# Altium footprint library PluggableConnectors.PcbLib: 7 footprints
Each footprint in its own frame and in the unit in brackets; x right, y up, seen from the top. Pads: shape width x height; smd on the part's side, far side on the other; paste and mask are expansions set on the pad; w line width, h text height; cw(c..) or ccw(c..) is an arc to the next point about the centre after c.
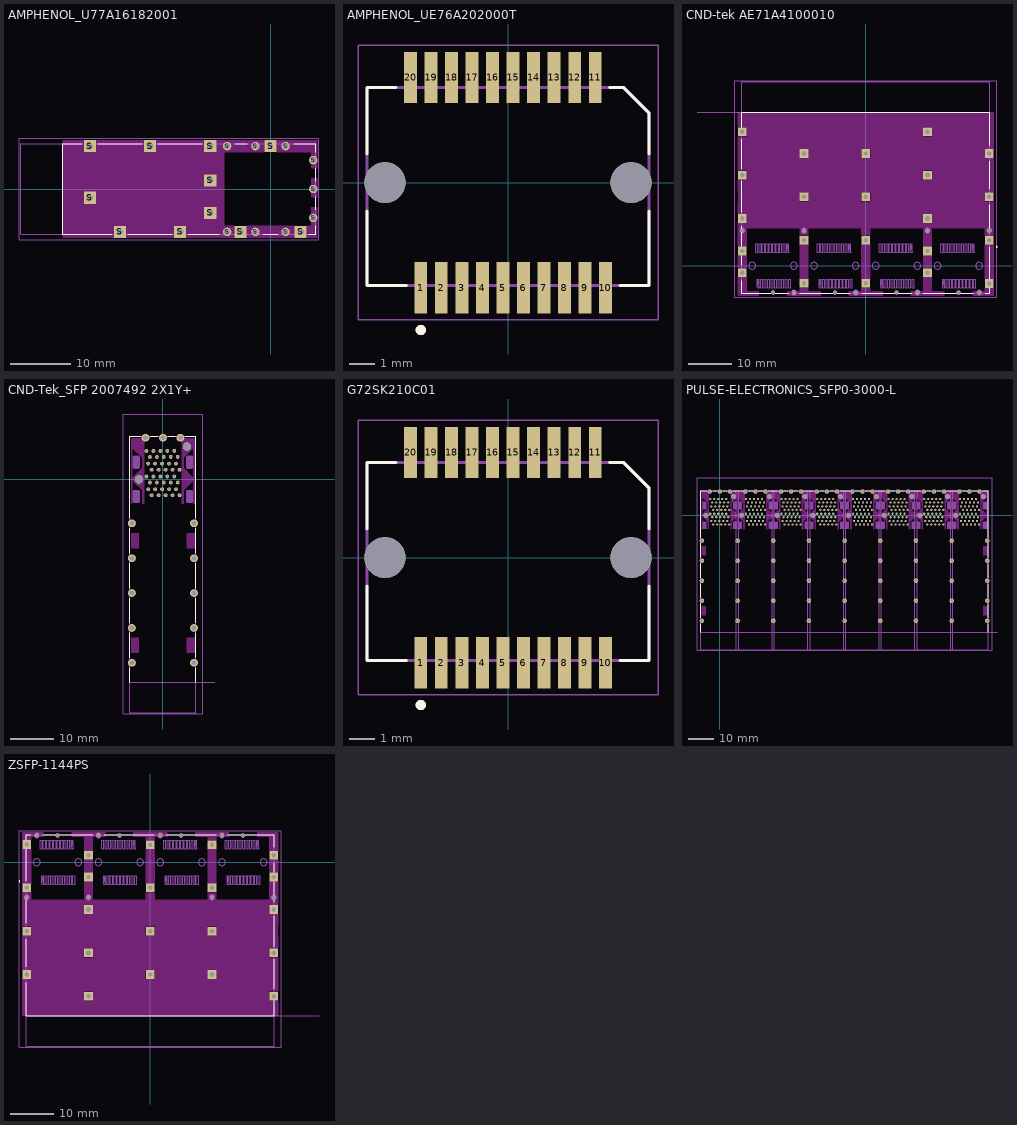
[diagram p0: the footprints below, top view; thin cyan lines are the x and y axes]

## AMPHENOL_U77A16182001 [mm]
height 10.85
pads (20):
  rect 2x2 / inner round 2 / far side rect 2x2 hole 1.1: S(-30,-1.455) S(-30,7.125) S(-25,-7.125) S(-20,7.125) S(-15,-7.125) S(-10,-3.955) S(-10,1.445) S(-10,7.125) S(-5,-7.125) S(5,-7.125)
  round 1.4 hole 1: S(-7.2,-7.125) S(-7.2,7.125) S(-2.5,-7.125) S(-2.5,7.125) S(2.5,-7.125) S(2.5,7.125) S(7.1,-4.8) S(7.1,0) S(7.1,4.8)
  rect 2x2 / inner round 2 / far side rect 2x2 hole 0.9: S(0,7.125)
Top Layer keep-out:
  region: 7.8,-1.355 6.8,-1.355 6.8,1.745 7.8,1.745
  region: 7.8,3.445 6.8,3.445 6.8,6.125 1,6.125 1,8.125 7.8,8.125
  region: 7.8,-6.125 7.8,-8.125 6,-8.125 6,-6.125 6.8,-6.125 6.8,-3.055 7.8,-3.055
  region: 4,-8.125 -4,-8.125 -4,-6.125 4,-6.125
  region: -1,6.125 -7.7,6.125 -7.7,-6.125 -6,-6.125 -6,-8.125 -11,-8.125 -11,-4.955 -9,-4.955 -9,-2.955 -11,-2.955 -11,0.445 -9,0.445 -9,2.445 -11,2.445 -11,6.125 -9,6.125 -9,8.125 -1,8.125
  region: -31,6.125 -29,6.125 -29,-0.455 -31,-0.455 -31,-2.455 -29,-2.455 -29,-8.125 -34.5,-8.125 -34.5,8.125 -31,8.125
  region: -11,-8.125 -14,-8.125 -14,-6.125 -16,-6.125 -16,-8.125 -24,-8.125 -24,-6.125 -26,-6.125 -26,-8.125 -29,-8.125 -29,8.125 -21,8.125 -21,6.125 -19,6.125 -19,8.125 -11,8.125
Top Overlay:
  lines w0.127: -31.32,7.5 -34.5,7.5 -34.5,-7.5 -26.32,-7.5 ; -28.68,7.5 -21.32,7.5 ; -23.68,-7.5 -16.32,-7.5 ; -18.68,7.5 -11.32,7.5 ; -13.68,-7.5 -8.5,-7.5 ; -5.88,7.5 -3.82,7.5 ; -1.18,-7.5 1.18,-7.5 ; 3.82,7.5 7.48,7.5 7.48,6.12 ; 6.32,-7.5 7.48,-7.5 7.48,-6.12 ; 7.48,-3.48 7.48,-1.32 ; 7.48,1.32 7.48,3.48
Keep-Out Layer:
  region: -11,-8.125 -14,-8.125 -14,-6.125 -16,-6.125 -16,-8.125 -24,-8.125 -24,-6.125 -26,-6.125 -26,-8.125 -29,-8.125 -29,8.125 -21,8.125 -21,6.125 -19,6.125 -19,8.125 -11,8.125
Mechanical 13:
  lines w0.127: -34.5,-7.5 7.48,-7.5 7.48,7.5 -34.5,7.5 ; -34.5,-7.5 -41.5,-7.5 -41.5,7.5 -34.5,7.5 ; -34.5,-7.5 -34.5,7.5
Mechanical 15:
  lines w0.05: -41.75,-8.4 8.05,-8.4 8.05,8.4 -41.75,8.4 -41.75,-8.4
3D body "step_temp.STEP": height 10.77, standoff -2.03, extent -41.49,-8.15 7.485,8.15

## AMPHENOL_UE76A202000T [mm]
height 5.25
pads (22):
  rect 0.5x2 smd: 1(-3.4,-4.1) 2(-2.6,-4.1) 3(-1.8,-4.1) 4(-1,-4.1) 5(-0.2,-4.1) 6(0.6,-4.1) 7(1.4,-4.1) 8(2.2,-4.1) 9(3,-4.1) 10(3.8,-4.1) 11(3.4,4.1) 12(2.6,4.1) 13(1.8,4.1) 14(1,4.1) 15(0.2,4.1) 16(-0.6,4.1) 17(-1.4,4.1) 18(-2.2,4.1) 19(-3,4.1) 20(-3.8,4.1)
  round 1.6 hole 1.6 unplated: ""(-4.8,0) ""(4.8,0)
Top Overlay:
  circle w0.2: c-3.4,-5.75 r0.1
  lines w0.127: -5.5,-1.12 -5.5,-4.01 -3.97,-4.01 ; -5.5,1.12 -5.5,3.71 -4.37,3.71 ; 3.97,3.71 4.5,3.71 5.5,2.71 5.5,1.12 ; 4.37,-4.01 5.5,-4.01 5.5,-1.12
Mechanical 13:
  circle w0.2: c-3.4,-5.75 r0.1
  lines w0.127: -5.5,-4.01 -5.5,3.71 4.5,3.71 5.5,2.71 5.5,-4.01 -5.5,-4.01
Mechanical 15:
  lines w0.05: -5.85,-5.35 -5.85,5.35 5.85,5.35 5.85,-5.35 -5.85,-5.35
3D body "step_temp.STEP": height 5.25, standoff -0.9, extent -5.5,-4.47 5.5,4.427

## CND-tek AE71A4100010 [mm] "/ 150726 / J.Jaramillo"
pads (34):
  rect 2x2 hole 1: SH(-28.5,-1.6) SH(-28.5,3.4) SH(-14.25,-4.075) SH(0,-4.075) SH(14.25,-1.6) SH(14.25,3.4)
  round 0.95 hole 0.95 unplated: SH(-28.5,8.1) SH(-21.37,-6.2) SH(-16.57,-6.2) SH(-14.25,8.1) SH(-7.12,-6.2) SH(-2.32,-6.2) SH(7.12,-6.2) SH(11.92,-6.2) SH(14.25,8.1) SH(21.37,-6.2) SH(26.17,-6.2) SH(28.5,8.1)
  rect 2x2 hole 1.1: SH(-28.5,10.9) SH(-28.5,20.9) SH(-28.5,30.9) SH(-14.25,5.9) SH(-14.25,15.9) SH(-14.25,25.9) SH(0,5.9) SH(14.25,10.9) SH(14.25,20.9) SH(14.25,30.9) SH(28.5,-4.1) SH(28.5,5.9) SH(28.5,15.9) SH(28.5,25.9)
  rect 2x2 hole 0.95: SH(0,15.9) SH(0,25.9)
Top Layer keep-out:
  region: 1,-5.9 -1,-5.9 -1,-5.182 1,-5.182
  region: 13.146,29.808 -27.4,29.808 -27.4,32.004 13.146,32.004
  region: -2.897,-6.769 -1.736,-6.769 -1.736,-6.879 -2.897,-6.879
  region: -17.147,-6.769 -15.986,-6.769 -15.986,-6.879 -17.147,-6.879
  region: 11.343,-6.769 12.504,-6.769 12.504,-6.879 11.343,-6.879
  region: 25.593,-6.769 26.754,-6.769 26.754,-6.879 25.593,-6.879
  region: 27.931,8.677 27.931,7.516 27.502,7.516 27.502,8.677
  region: 29.501,8.674 29.501,7.513 29.072,7.513 29.072,8.674
  region: 13.681,8.677 13.681,7.516 13.252,7.516 13.252,8.677
  region: 15.251,8.674 15.251,7.513 14.822,7.513 14.822,8.674
  region: -14.819,8.677 -14.819,7.516 -15.248,7.516 -15.248,8.677
  region: -13.249,8.674 -13.249,7.513 -13.678,7.513 -13.678,8.674
  region: -29.069,8.677 -29.069,7.516 -29.498,7.516 -29.498,8.677
  region: -27.499,8.674 -27.499,7.513 -27.928,7.513 -27.928,8.674
  region: 15.25,4.496 13.25,4.496 13.25,7.544 15.25,7.544
  region: -15.358,14.81 -29.464,14.81 -29.464,17 -15.358,17
  region: 29.5,32.004 -29.5,32.004 -29.5,35.4 29.5,35.4
  region: 25.601,-6.88 24.62,-6.88 24.62,-5.9 25.601,-5.9
  region: 18.12,-6.88 12.498,-6.88 12.498,-5.9 18.12,-5.9
  region: -2.896,-6.88 -3.88,-6.88 -3.88,-5.9 -2.896,-5.9
  region: -10.38,-6.88 -15.993,-6.88 -15.993,-5.9 -10.38,-5.9
  region: -24.63,-6.88 -27.5,-6.88 -27.5,-5.9 -24.63,-5.9
  region: 15.25,-5.9 13.25,-5.9 13.25,-2.6 15.25,-2.6
  region: -13.25,-2.953 -15.25,-2.953 -15.25,4.9 -13.25,4.9
  region: -13.25,7.011 -15.25,7.011 -15.25,7.496 -13.25,7.496
  region: 29.5,-2.999 27.5,-2.999 27.5,4.9 29.5,4.9
  region: 29.5,6.9 27.5,6.9 27.5,7.524 29.5,7.524
  region: -27.5,-6.88 -29.5,-6.88 -29.5,-2.6 -27.5,-2.6
  region: -27.5,4.486 -29.5,4.486 -29.5,7.507 -27.5,7.507
  region: 29.5,9.9 15.25,9.9 15.25,11.9 29.5,11.9
  region: 13.25,9.9 -27.5,9.9 -27.5,11.9 13.25,11.9
  region: 29.5,19.814 15.357,19.814 15.357,22 29.5,22
  region: 13.144,19.814 -27.398,19.814 -27.398,22.005 13.144,22.005
  region: -15.36,24.81 -29.5,24.81 -29.5,27 -15.36,27
  region: 27.399,24.805 1.098,24.805 1.098,27 27.399,27
  region: 29.5,29.792 15.355,29.792 15.355,32.004 29.5,32.004
  region: 29.5,8.674 -29.5,8.674 -29.5,9.9 29.5,9.9
  region: 29.5,11.9 -29.5,11.9 -29.5,14.803 29.5,14.803
  region: 29.5,16.996 -29.5,16.996 -29.5,19.801 29.5,19.801
  region: 27.5,-6.88 26.749,-6.88 26.749,-5.9 27.5,-5.9
  region: 11.347,-6.88 10.37,-6.88 10.37,-5.9 11.347,-5.9
  region: 3.87,-6.88 -1.739,-6.88 -1.739,-5.9 3.87,-5.9
  region: -17.14,-6.88 -18.13,-6.88 -18.13,-5.9 -17.14,-5.9
  region: -24.63,-6.88 -27.5,-6.88 -27.5,-5.9 -24.63,-5.9
  region: 15.25,-5.9 13.25,-5.9 13.25,-2.6 15.25,-2.6
  region: 15.25,-0.6 13.25,-0.6 13.25,2.3 15.25,2.3
  region: 1,-3.037 -1,-3.037 -1,4.9 1,4.9
  region: 1,7 -1,7 -1,8.675 1,8.675
  region: -13.25,-5.9 -15.25,-5.9 -15.25,-5.17 -13.25,-5.17
  region: 29.5,-6.88 27.5,-6.88 27.5,-5.201 29.5,-5.201
  region: -27.5,-6.88 -29.5,-6.88 -29.5,-2.6 -27.5,-2.6
  region: -27.5,-0.6 -29.5,-0.6 -29.5,2.36 -27.5,2.36
  region: 27.405,14.807 1.099,14.807 1.099,16.994 27.405,16.994
  region: -1.113,14.8 -13.147,14.8 -13.147,16.999 -1.113,16.999
  region: 29.5,9.9 15.25,9.9 15.25,11.9 29.5,11.9
  region: 13.25,9.9 -27.5,9.9 -27.5,11.9 13.25,11.9
  region: -1.101,24.795 -13.145,24.795 -13.145,27.005 -1.101,27.005
  region: 29.5,22.01 -29.5,22.01 -29.5,24.795 29.5,24.795
  region: 29.5,27.01 -29.5,27.01 -29.5,29.798 29.5,29.798
Top Overlay:
  circle w0.2: c30.17,4.4 r0.1
  lines w0.127: -28.625,-3.5 -28.625,-6.3 -17.9,-6.3 ; -28.625,0.2 -28.625,9.15 ; -28.625,12.35 -28.625,19.45 ; -28.625,22.35 -28.625,29.121 ; -28.625,31.635 -28.625,35.4 28.625,35.4 28.625,27.75 ; -15.2,-6.3 -3.7,-6.3 ; -0.9,-6.3 10.6,-6.3 ; 13.3,-6.3 24.8,-6.3 ; 27.6,-6.3 28.625,-6.3 28.625,4.25 ; 28.625,7.8 28.625,14.05 ; 28.625,17.8 28.625,24.05
Mechanical 13:
  circle w0.2: c30.17,4.4 r0.1
  lines w0.127: -38.925,35.4 -28.625,35.4 ; -28.625,35.4 28.625,35.4 ; -28.625,35.4 -28.625,42.4 28.625,42.4 28.625,35.4 ; -28.625,35.4 -28.625,-6.3 28.625,-6.3 28.625,35.4
  text "PCB Edge" at -38.825,36.025 h1.27
Mechanical 15:
  drawing of 464 lines, arcs and shapes, not listed
3D body "AE71A4100010 S19-4TS19-D0S02(SFP 1X4 ???3D).STEP": height 10.72, standoff -3.61, extent -29.508,-6.325 29.533,42.425

## CND-Tek_SFP 2007492 2X1Y+ [mm]
pads (55):
  round 0.88 hole 0.57: L1(3.4,-0.73) L2(2.6,0.65) L3(1.8,-0.73) L4(1,0.65) L5(0.2,-0.73) L6(-0.6,0.65) L7(-1.4,-0.73) L8(-2.2,0.65) L9(-3,-0.73) L10(-3.8,0.65) L11(-3.4,-2.28) L12(-2.6,-3.67) L13(-1.8,-2.28) L14(-1,-3.67) L15(-0.2,-2.28) L16(0.6,-3.67) L17(1.4,-2.28) L18(2.2,-3.67) L19(3,-2.28) L20(3.8,-3.67) T1(-3.4,3.59) T2(-2.6,2.2) T3(-1.8,3.59) T4(-1,2.2) T5(-0.2,3.59) T6(0.6,2.2) T7(1.4,3.59) T8(2.2,2.2) T9(3,3.59) T10(3.8,2.2) T11(3.4,5.14) T12(2.6,6.52) T13(1.8,5.14) T14(1,6.52) T15(0.2,5.14) T16(-0.6,6.52) T17(-1.4,5.14) T18(-2.2,6.52) T19(-3,5.14) T20(-3.8,6.52)
  round 1.9 hole 1.9 unplated: MH(-5.5,0) MH(5.5,7.5)
  round 1.8 hole 1.1: SH(-7.125,-42.1) SH(-7.125,-34.1) SH(-7.125,-26.1) SH(-7.125,-18.1) SH(-7.125,-10.1) SH(-4,9.525) SH(0,9.525) SH(4,9.525) SH(7.125,-42.1) SH(7.125,-34.1) SH(7.125,-26.1) SH(7.125,-18.1) SH(7.125,-10.1)
Top Layer keep-out:
  region: 5.505,-39.85 7.255,-39.85 7.255,-36.35 5.505,-36.35
  region: 5.505,-15.85 7.255,-15.85 7.255,-12.35 5.505,-12.35
  region: -5.505,-39.85 -7.255,-39.85 -7.255,-36.35 -5.505,-36.35
  region: -4.34,9.025 -4.34,-5.63 -4.8,-5.63 -4.8,-2.56 -7,-0.35 -7,0.39 -4.8,2.6 -4.8,4.94 -7,7.15 -7,9.4 -4.715,9.4
  region: -5.505,-39.85 -7.255,-39.85 -7.255,-36.35 -5.505,-36.35
  region: -5.505,-15.85 -7.255,-15.85 -7.255,-12.35 -5.505,-12.35
  region: -7,-5.63 -7.25,-5.63 -7.25,9.4 -7,9.4
  region: 7.25,-5.63 7,-5.63 7,9.4 7.25,9.4
  region: 7,7.15 4.8,4.94 4.8,2.6 7,0.39 7,-0.35 4.8,-2.56 4.8,-5.63 4.34,-5.63 4.34,9.025 4.715,9.4 7,9.4
Top Overlay:
  lines w0.127: 7.57,-46.6 7.57,-43.238 ; 7.57,-40.962 7.57,-35.238 ; 7.57,-32.962 7.57,-27.238 ; 7.57,-24.962 7.57,-19.238 ; 7.57,-16.962 7.57,-11.238 ; 7.57,-8.962 7.57,9.9 ; -7.57,9.9 -7.57,-8.962 -7.57,9.9 ; -7.57,9.9 -5.138,9.9 -7.57,9.9 ; 7.57,9.9 5.138,9.9 7.57,9.9 ; -7.57,-46.6 -7.57,-43.238 -7.57,-46.6 ; -7.57,-40.962 -7.57,-35.238 -7.57,-40.962 ; -7.57,-32.962 -7.57,-27.238 -7.57,-32.962 ; -7.57,-24.962 -7.57,-19.238 -7.57,-24.962 ; -7.57,-16.962 -7.57,-11.238 -7.57,-16.962 ; -2.862,9.9 -1.138,9.9 -2.862,9.9 ; 1.138,9.9 2.862,9.9 1.138,9.9
Mechanical 13:
  drawing of 15 lines, arcs and shapes, not listed
Mechanical 15:
  lines w0.05: -9.095,-53.85 -9.095,14.985 ; -9.095,-53.85 9.095,-53.85 ; -9.095,-53.85 -9.095,14.985 ; -9.095,-53.85 9.095,-53.85 ; -9.095,14.985 9.095,14.985 ; -9.095,14.985 9.095,14.985 ; 9.095,-53.85 9.095,14.985
3D body "137191.step": height 26.82, standoff -3.01, extent -8.2,-53.602 8.149,9.902

## G72SK210C01 [mm] "/ 150726 / J.Jaramillo"
height 5.25
pads (22):
  rect 0.5x2 smd: 1(-3.4,-4.1) 2(-2.6,-4.1) 3(-1.8,-4.1) 4(-1,-4.1) 5(-0.2,-4.1) 6(0.6,-4.1) 7(1.4,-4.1) 8(2.2,-4.1) 9(3,-4.1) 10(3.8,-4.1) 11(3.4,4.1) 12(2.6,4.1) 13(1.8,4.1) 14(1,4.1) 15(0.2,4.1) 16(-0.6,4.1) 17(-1.4,4.1) 18(-2.2,4.1) 19(-3,4.1) 20(-3.8,4.1)
  round 1.6 hole 1.6 unplated: ""(-4.8,0) ""(4.8,0)
Top Overlay:
  circle w0.2: c-3.4,-5.75 r0.1
  lines w0.127: -5.5,-1.12 -5.5,-4.01 -3.97,-4.01 ; -5.5,1.12 -5.5,3.71 -4.37,3.71 ; 3.97,3.71 4.5,3.71 5.5,2.71 5.5,1.12 ; 4.37,-4.01 5.5,-4.01 5.5,-1.12
Mechanical 13:
  circle w0.2: c-3.4,-5.75 r0.1
  lines w0.127: -5.5,-4.01 5.5,-4.01 5.5,2.71 4.5,3.71 -5.5,3.71 -5.5,-4.01
Mechanical 15:
  lines w0.05: -5.85,-5.35 5.85,-5.35 5.85,5.35 -5.85,5.35 -5.85,-5.35
3D body "CONN-SMD_20P-P0.80_G72SK210C01.step": height 5.31, standoff -0.49, extent -5.5,-4.66 5.501,4.35

## PULSE-ELECTRONICS_SFP0-3000-L [mm] "CONN SFP RCPT W/CAGE 2X8 320P RA"
pads (405):
  round 0.88 hole 0.57: L1_1(3.4,-0.73) L1_2(17.65,-0.73) L1_3(31.9,-0.73) L1_4(46.15,-0.73) L1_5(60.4,-0.73) L1_6(74.65,-0.73) L1_7(88.9,-0.73) L1_8(103.15,-0.73) L2_1(2.6,0.65) L2_2(16.85,0.65) L2_3(31.1,0.65) L2_4(45.35,0.65) L2_5(59.6,0.65) L2_6(73.85,0.65) L2_7(88.1,0.65) L2_8(102.35,0.65) L3_1(1.8,-0.73) L3_2(16.05,-0.73) L3_3(30.3,-0.73) L3_4(44.55,-0.73) L3_5(58.8,-0.73) L3_6(73.05,-0.73) L3_7(87.3,-0.73) L3_8(101.55,-0.73) L4_1(1,0.65) L4_2(15.25,0.65) L4_3(29.5,0.65) L4_4(43.75,0.65) L4_5(58,0.65) L4_6(72.25,0.65) L4_7(86.5,0.65) L4_8(100.75,0.65) L5_1(0.2,-0.73) L5_2(14.45,-0.73) L5_3(28.7,-0.73) L5_4(42.95,-0.73) L5_5(57.2,-0.73) L5_6(71.45,-0.73) L5_7(85.7,-0.73) L5_8(99.95,-0.73) L6_1(-0.6,0.65) L6_2(13.65,0.65) L6_3(27.9,0.65) L6_4(42.15,0.65) L6_5(56.4,0.65) L6_6(70.65,0.65) L6_7(84.9,0.65) L6_8(99.15,0.65) L7_1(-1.4,-0.73) L7_2(12.85,-0.73) L7_3(27.1,-0.73) L7_4(41.35,-0.73) L7_5(55.6,-0.73) L7_6(69.85,-0.73) L7_7(84.1,-0.73) L7_8(98.35,-0.73) L8_1(-2.2,0.65) L8_2(12.05,0.65) L8_3(26.3,0.65) L8_4(40.55,0.65) L8_5(54.8,0.65) L8_6(69.05,0.65) L8_7(83.3,0.65) L8_8(97.55,0.65) L9_1(-3,-0.73) L9_2(11.25,-0.73) L9_3(25.5,-0.73) L9_4(39.75,-0.73) L9_5(54,-0.73) L9_6(68.25,-0.73) L9_7(82.5,-0.73) L9_8(96.75,-0.73) L10_1(-3.8,0.65) L10_2(10.45,0.65) L10_3(24.7,0.65) L10_4(38.95,0.65) L10_5(53.2,0.65) L10_6(67.45,0.65) L10_7(81.7,0.65) L10_8(95.95,0.65) L11_1(-3.4,-2.28) L11_2(10.85,-2.28) L11_3(25.1,-2.28) L11_4(39.35,-2.28) L11_5(53.6,-2.28) L11_6(67.85,-2.28) L11_7(82.1,-2.28) L11_8(96.35,-2.28) L12_1(-2.6,-3.67) L12_2(11.65,-3.67) L12_3(25.9,-3.67) L12_4(40.15,-3.67) L12_5(54.4,-3.67) L12_6(68.65,-3.67) L12_7(82.9,-3.67) L12_8(97.15,-3.67) L13_1(-1.8,-2.28) L13_2(12.45,-2.28) L13_3(26.7,-2.28) L13_4(40.95,-2.28) L13_5(55.2,-2.28) L13_6(69.45,-2.28) L13_7(83.7,-2.28) L13_8(97.95,-2.28) L14_1(-1,-3.67) L14_2(13.25,-3.67) L14_3(27.5,-3.67) L14_4(41.75,-3.67) L14_5(56,-3.67) L14_6(70.25,-3.67) L14_7(84.5,-3.67) L14_8(98.75,-3.67) L15_1(-0.2,-2.28) L15_2(14.05,-2.28) L15_3(28.3,-2.28) L15_4(42.55,-2.28) L15_5(56.8,-2.28) L15_6(71.05,-2.28) L15_7(85.3,-2.28) L15_8(99.55,-2.28) L16_1(0.6,-3.67) L16_2(14.85,-3.67) L16_3(29.1,-3.67) L16_4(43.35,-3.67) L16_5(57.6,-3.67) L16_6(71.85,-3.67) L16_7(86.1,-3.67) L16_8(100.35,-3.67) L17_1(1.4,-2.28) L17_2(15.65,-2.28) L17_3(29.9,-2.28) L17_4(44.15,-2.28) L17_5(58.4,-2.28) L17_6(72.65,-2.28) L17_7(86.9,-2.28) L17_8(101.15,-2.28) L18_1(2.2,-3.67) L18_2(16.45,-3.67) L18_3(30.7,-3.67) L18_4(44.95,-3.67) L18_5(59.2,-3.67) L18_6(73.45,-3.67) L18_7(87.7,-3.67) L18_8(101.95,-3.67) L19_1(3,-2.28) L19_2(17.25,-2.28) L19_3(31.5,-2.28) L19_4(45.75,-2.28) L19_5(60,-2.28) L19_6(74.25,-2.28) L19_7(88.5,-2.28) L19_8(102.75,-2.28) L20_1(3.8,-3.67) L20_2(18.05,-3.67) L20_3(32.3,-3.67) L20_4(46.55,-3.67) L20_5(60.8,-3.67) L20_6(75.05,-3.67) L20_7(89.3,-3.67) L20_8(103.55,-3.67) T1_1(-3.4,3.59) T1_2(10.85,3.59) T1_3(25.1,3.59) T1_4(39.35,3.59) T1_5(53.6,3.59) T1_6(67.85,3.59) T1_7(82.1,3.59) T1_8(96.35,3.59) T2_1(-2.6,2.2) T2_2(11.65,2.2) T2_3(25.9,2.2) T2_4(40.15,2.2) T2_5(54.4,2.2) T2_6(68.65,2.2) T2_7(82.9,2.2) T2_8(97.15,2.2) T3_1(-1.8,3.59) T3_2(12.45,3.59) T3_3(26.7,3.59) T3_4(40.95,3.59) T3_5(55.2,3.59) T3_6(69.45,3.59) T3_7(83.7,3.59) T3_8(97.95,3.59) T4_1(-1,2.2) T4_2(13.25,2.2) T4_3(27.5,2.2) T4_4(41.75,2.2) T4_5(56,2.2) T4_6(70.25,2.2) T4_7(84.5,2.2) T4_8(98.75,2.2) T5_1(-0.2,3.59) T5_2(14.05,3.59) T5_3(28.3,3.59) T5_4(42.55,3.59) T5_5(56.8,3.59) T5_6(71.05,3.59) T5_7(85.3,3.59) T5_8(99.55,3.59) T6_1(0.6,2.2) T6_2(14.85,2.2) T6_3(29.1,2.2) T6_4(43.35,2.2) T6_5(57.6,2.2) T6_6(71.85,2.2) T6_7(86.1,2.2) T6_8(100.35,2.2) T7_1(1.4,3.59) T7_2(15.65,3.59) T7_3(29.9,3.59) T7_4(44.15,3.59) T7_5(58.4,3.59) T7_6(72.65,3.59) T7_7(86.9,3.59) T7_8(101.15,3.59) T8_1(2.2,2.2) T8_2(16.45,2.2) T8_3(30.7,2.2) T8_4(44.95,2.2) T8_5(59.2,2.2) T8_6(73.45,2.2) T8_7(87.7,2.2) T8_8(101.95,2.2) T9_1(3,3.59) T9_2(17.25,3.59) T9_3(31.5,3.59) T9_4(45.75,3.59) T9_5(60,3.59) T9_6(74.25,3.59) T9_7(88.5,3.59) T9_8(102.75,3.59) T10_1(3.8,2.2) T10_2(18.05,2.2) T10_3(32.3,2.2) T10_4(46.55,2.2) T10_5(60.8,2.2) T10_6(75.05,2.2) T10_7(89.3,2.2) T10_8(103.55,2.2) T11_1(3.4,5.14) T11_2(17.65,5.14) T11_3(31.9,5.14) T11_4(46.15,5.14) T11_5(60.4,5.14) T11_6(74.65,5.14) T11_7(88.9,5.14) T11_8(103.15,5.14) T12_1(2.6,6.52) T12_2(16.85,6.52) T12_3(31.1,6.52) T12_4(45.35,6.52) T12_5(59.6,6.52) T12_6(73.85,6.52) T12_7(88.1,6.52) T12_8(102.35,6.52) T13_1(1.8,5.14) T13_2(16.05,5.14) T13_3(30.3,5.14) T13_4(44.55,5.14) T13_5(58.8,5.14) T13_6(73.05,5.14) T13_7(87.3,5.14) T13_8(101.55,5.14) T14_1(1,6.52) T14_2(15.25,6.52) T14_3(29.5,6.52) T14_4(43.75,6.52) T14_5(58,6.52) T14_6(72.25,6.52) T14_7(86.5,6.52) T14_8(100.75,6.52) T15_1(0.2,5.14) T15_2(14.45,5.14) T15_3(28.7,5.14) T15_4(42.95,5.14) T15_5(57.2,5.14) T15_6(71.45,5.14) T15_7(85.7,5.14) T15_8(99.95,5.14) T16_1(-0.6,6.52) T16_2(13.65,6.52) T16_3(27.9,6.52) T16_4(42.15,6.52) T16_5(56.4,6.52) T16_6(70.65,6.52) T16_7(84.9,6.52) T16_8(99.15,6.52) T17_1(-1.4,5.14) T17_2(12.85,5.14) T17_3(27.1,5.14) T17_4(41.35,5.14) T17_5(55.6,5.14) T17_6(69.85,5.14) T17_7(84.1,5.14) T17_8(98.35,5.14) T18_1(-2.2,6.52) T18_2(12.05,6.52) T18_3(26.3,6.52) T18_4(40.55,6.52) T18_5(54.8,6.52) T18_6(69.05,6.52) T18_7(83.3,6.52) T18_8(97.55,6.52) T19_1(-3,5.14) T19_2(11.25,5.14) T19_3(25.5,5.14) T19_4(39.75,5.14) T19_5(54,5.14) T19_6(68.25,5.14) T19_7(82.5,5.14) T19_8(96.75,5.14) T20_1(-3.8,6.52) T20_2(10.45,6.52) T20_3(24.7,6.52) T20_4(38.95,6.52) T20_5(53.2,6.52) T20_6(67.45,6.52) T20_7(81.7,6.52) T20_8(95.95,6.52)
  round 1.9 hole 1.9 unplated: MH(-5.5,0) MH(5.5,7.5) MH(8.75,0) MH(19.75,7.5) MH(23,0) MH(34,7.5) MH(37.25,0) MH(48.25,7.5) MH(51.5,0) MH(62.5,7.5) MH(65.75,0) MH(76.75,7.5) MH(80,0) MH(91,7.5) MH(94.25,0) MH(105.25,7.5)
  round 1.8 hole 1.1: SH(-7.125,-42.1) SH(-7.125,-34.1) SH(-7.125,-26.1) SH(-7.125,-18.1) SH(-7.125,-10.1) SH(-4,9.525) SH(0,9.525) SH(4,9.525) SH(7.125,-42.1) SH(7.125,-34.1) SH(7.125,-26.1) SH(7.125,-18.1) SH(7.125,-10.1) SH(10.25,9.525) SH(14.25,9.525) SH(18.25,9.525) SH(21.375,-42.1) SH(21.375,-34.1) SH(21.375,-26.1) SH(21.375,-18.1) SH(21.375,-10.1) SH(24.5,9.525) SH(28.5,9.525) SH(32.5,9.525) SH(35.625,-42.1) SH(35.625,-34.1) SH(35.625,-26.1) SH(35.625,-18.1) SH(35.625,-10.1) SH(38.75,9.525) SH(42.75,9.525) SH(46.75,9.525) SH(49.875,-42.1) SH(49.875,-34.1) SH(49.875,-26.1) SH(49.875,-18.1) SH(49.875,-10.1) SH(53,9.525) SH(57,9.525) SH(61,9.525) SH(64.125,-42.1) SH(64.125,-34.1) SH(64.125,-26.1) SH(64.125,-18.1) SH(64.125,-10.1) SH(67.25,9.525) SH(71.25,9.525) SH(75.25,9.525) SH(78.375,-34.1) SH(78.375,-26.1) SH(78.375,-10.1) SH(78.375,-42.1) SH(78.375,-18.1) SH(81.5,9.525) SH(85.5,9.525) SH(89.5,9.525) SH(92.625,-42.1) SH(92.625,-34.1) SH(92.625,-26.1) SH(92.625,-18.1) SH(92.625,-10.1) SH(95.75,9.525) SH(99.75,9.525) SH(103.75,9.525) SH(106.875,-42.1) SH(106.875,-34.1) SH(106.875,-26.1) SH(106.875,-18.1) SH(106.875,-10.1)
Top Layer keep-out:
  region: 107.005,-39.85 105.255,-39.85 105.255,-36.35 107.005,-36.35
  region: 92.75,-5.63 92.5,-5.63 92.5,9.4 92.75,9.4
  region: 107,-5.63 106.75,-5.63 106.75,9.4 107,9.4
  region: 106.75,7.15 104.55,4.94 104.55,2.6 106.75,0.39 106.75,-0.35 104.55,-2.56 104.55,-5.63 104.09,-5.63 104.09,9.025 104.465,9.4 106.75,9.4
  region: 95.41,9.025 95.41,-5.63 94.95,-5.63 94.95,-2.56 92.75,-0.35 92.75,0.39 94.95,2.6 94.95,4.94 92.75,7.15 92.75,9.4 95.035,9.4
  region: 78.5,-5.63 78.25,-5.63 78.25,9.4 78.5,9.4
  region: 92.75,-5.63 92.5,-5.63 92.5,9.4 92.75,9.4
  region: 92.5,7.15 90.3,4.94 90.3,2.6 92.5,0.39 92.5,-0.35 90.3,-2.56 90.3,-5.63 89.84,-5.63 89.84,9.025 90.215,9.4 92.5,9.4
  region: 81.16,9.025 81.16,-5.63 80.7,-5.63 80.7,-2.56 78.5,-0.35 78.5,0.39 80.7,2.6 80.7,4.94 78.5,7.15 78.5,9.4 80.785,9.4
  region: 64.25,-5.63 64,-5.63 64,9.4 64.25,9.4
  region: 78.5,-5.63 78.25,-5.63 78.25,9.4 78.5,9.4
  region: 78.25,7.15 76.05,4.94 76.05,2.6 78.25,0.39 78.25,-0.35 76.05,-2.56 76.05,-5.63 75.59,-5.63 75.59,9.025 75.965,9.4 78.25,9.4
  region: 66.91,9.025 66.91,-5.63 66.45,-5.63 66.45,-2.56 64.25,-0.35 64.25,0.39 66.45,2.6 66.45,4.94 64.25,7.15 64.25,9.4 66.535,9.4
  region: 50,-5.63 49.75,-5.63 49.75,9.4 50,9.4
  region: 64.25,-5.63 64,-5.63 64,9.4 64.25,9.4
  region: 64,7.15 61.8,4.94 61.8,2.6 64,0.39 64,-0.35 61.8,-2.56 61.8,-5.63 61.34,-5.63 61.34,9.025 61.715,9.4 64,9.4
  region: 52.66,9.025 52.66,-5.63 52.2,-5.63 52.2,-2.56 50,-0.35 50,0.39 52.2,2.6 52.2,4.94 50,7.15 50,9.4 52.285,9.4
  region: 35.75,-5.63 35.5,-5.63 35.5,9.4 35.75,9.4
  region: 50,-5.63 49.75,-5.63 49.75,9.4 50,9.4
  region: 49.75,7.15 47.55,4.94 47.55,2.6 49.75,0.39 49.75,-0.35 47.55,-2.56 47.55,-5.63 47.09,-5.63 47.09,9.025 47.465,9.4 49.75,9.4
  region: 38.41,9.025 38.41,-5.63 37.95,-5.63 37.95,-2.56 35.75,-0.35 35.75,0.39 37.95,2.6 37.95,4.94 35.75,7.15 35.75,9.4 38.035,9.4
  region: 21.5,-5.63 21.25,-5.63 21.25,9.4 21.5,9.4
  region: 35.75,-5.63 35.5,-5.63 35.5,9.4 35.75,9.4
  region: 35.5,7.15 33.3,4.94 33.3,2.6 35.5,0.39 35.5,-0.35 33.3,-2.56 33.3,-5.63 32.84,-5.63 32.84,9.025 33.215,9.4 35.5,9.4
  region: 21.5,-5.63 21.25,-5.63 21.25,9.4 21.5,9.4
  region: 21.25,7.15 19.05,4.94 19.05,2.6 21.25,0.39 21.25,-0.35 19.05,-2.56 19.05,-5.63 18.59,-5.63 18.59,9.025 18.965,9.4 21.25,9.4
  region: -5.505,-39.85 -7.255,-39.85 -7.255,-36.35 -5.505,-36.35
  region: -4.34,9.025 -4.34,-5.63 -4.8,-5.63 -4.8,-2.56 -7,-0.35 -7,0.39 -4.8,2.6 -4.8,4.94 -7,7.15 -7,9.4 -4.715,9.4
  region: -5.505,-39.85 -7.255,-39.85 -7.255,-36.35 -5.505,-36.35
  region: -5.505,-15.85 -7.255,-15.85 -7.255,-12.35 -5.505,-12.35
  region: 107,-5.63 106.75,-5.63 106.75,9.4 107,9.4
  region: 92.75,-5.63 92.5,-5.63 92.5,9.4 92.75,9.4
  region: 92.75,-5.63 92.5,-5.63 92.5,9.4 92.75,9.4
  region: 78.5,-5.63 78.25,-5.63 78.25,9.4 78.5,9.4
  region: 78.5,-5.63 78.25,-5.63 78.25,9.4 78.5,9.4
  region: 50,-5.63 49.75,-5.63 49.75,9.4 50,9.4
  region: 50,-5.63 49.75,-5.63 49.75,9.4 50,9.4
  region: 64.25,-5.63 64,-5.63 64,9.4 64.25,9.4
  region: 64.25,-5.63 64,-5.63 64,9.4 64.25,9.4
  region: 35.75,-5.63 35.5,-5.63 35.5,9.4 35.75,9.4
  region: 35.75,-5.63 35.5,-5.63 35.5,9.4 35.75,9.4
  region: 21.5,-5.63 21.25,-5.63 21.25,9.4 21.5,9.4
  region: 21.5,-5.63 21.25,-5.63 21.25,9.4 21.5,9.4
  region: 107.005,-15.85 105.255,-15.85 105.255,-12.35 107.005,-12.35
  region: -7,-5.63 -7.25,-5.63 -7.25,9.4 -7,9.4
  region: 7.25,-5.63 7,-5.63 7,9.4 7.25,9.4
  region: 9.91,9.025 9.91,-5.63 9.45,-5.63 9.45,-2.56 7.25,-0.35 7.25,0.39 9.45,2.6 9.45,4.94 7.25,7.15 7.25,9.4 9.535,9.4
  region: 7,7.15 4.8,4.94 4.8,2.6 7,0.39 7,-0.35 4.8,-2.56 4.8,-5.63 4.34,-5.63 4.34,9.025 4.715,9.4 7,9.4
  region: 24.16,9.025 24.16,-5.63 23.7,-5.63 23.7,-2.56 21.5,-0.35 21.5,0.39 23.7,2.6 23.7,4.94 21.5,7.15 21.5,9.4 23.785,9.4
Top Overlay:
  lines w0.127: 6.68,9.9 9.112,9.9 ; 11.388,9.9 13.112,9.9 ; 15.388,9.9 17.112,9.9 ; 19.388,9.9 21.82,9.9 ; 20.93,9.9 23.362,9.9 ; 25.638,9.9 27.362,9.9 ; 29.638,9.9 31.362,9.9 ; 33.638,9.9 36.07,9.9 ; 35.18,9.9 37.612,9.9 ; 39.888,9.9 41.612,9.9 ; 43.888,9.9 45.612,9.9 ; 47.888,9.9 50.32,9.9 ; 49.43,9.9 51.862,9.9 ; 54.138,9.9 55.862,9.9 ; 58.138,9.9 59.862,9.9 ; 62.138,9.9 64.57,9.9 ; 63.68,9.9 66.112,9.9 ; 68.388,9.9 70.112,9.9 ; 72.388,9.9 74.112,9.9 ; 76.388,9.9 78.82,9.9 ; 77.93,9.9 80.362,9.9 ; 82.638,9.9 84.362,9.9 ; 86.638,9.9 88.362,9.9 ; 90.638,9.9 93.07,9.9 ; 92.18,9.9 94.612,9.9 ; 96.888,9.9 98.612,9.9 ; 100.888,9.9 102.612,9.9 ; 104.888,9.9 107.32,9.9 107.32,-8.962 ; 107.32,-46.6 107.32,-43.238 ; 107.32,-40.962 107.32,-35.238 ; 107.32,-32.962 107.32,-27.238 ; 107.32,-24.962 107.32,-19.238 ; 107.32,-16.962 107.32,-11.238 ; -7.57,9.9 -7.57,-8.962 -7.57,9.9 ; -7.57,9.9 -5.138,9.9 -7.57,9.9 ; -7.57,-46.6 -7.57,-43.238 -7.57,-46.6 ; -7.57,-40.962 -7.57,-35.238 -7.57,-40.962 ; -7.57,-32.962 -7.57,-27.238 -7.57,-32.962 ; -7.57,-24.962 -7.57,-19.238 -7.57,-24.962 ; -7.57,-16.962 -7.57,-11.238 -7.57,-16.962 ; -2.862,9.9 -1.138,9.9 -2.862,9.9 ; 1.138,9.9 2.862,9.9 1.138,9.9 ; 5.138,9.9 7.57,9.9 5.138,9.9
Mechanical 13:
  drawing of 78 lines, arcs and shapes, not listed
  text "PCB edge" at 110.325,-45.7 h0.81
Mechanical 15:
  lines w0.05: 5.155,-53.85 23.345,-53.85 ; 5.155,14.985 23.345,14.985 ; 19.405,-53.85 37.595,-53.85 ; 19.405,14.985 37.595,14.985 ; 33.655,-53.85 51.845,-53.85 ; 33.655,14.985 51.845,14.985 ; 47.905,-53.85 66.095,-53.85 ; 47.905,14.985 66.095,14.985 ; 62.155,-53.85 80.345,-53.85 ; 62.155,14.985 80.345,14.985 ; 76.405,-53.85 94.595,-53.85 ; 76.405,14.985 94.595,14.985 ; 90.655,-53.85 108.845,-53.85 108.845,14.985 90.655,14.985 ; -9.095,-53.85 -9.095,14.985 ; -9.095,-53.85 9.095,-53.85 -9.095,-53.85 ; -9.095,-53.85 -9.095,14.985 ; -9.095,14.985 9.095,14.985 -9.095,14.985
3D body "137191.step": height 26.82, standoff -3.01, extent 91.55,-53.602 107.899,9.902
3D body "137191.step": height 26.82, standoff -3.01, extent 77.3,-53.602 93.649,9.902
3D body "137191.step": height 26.82, standoff -3.01, extent 63.05,-53.602 79.399,9.902
3D body "137191.step": height 26.82, standoff -3.01, extent 48.8,-53.602 65.149,9.902
3D body "137191.step": height 26.82, standoff -3.01, extent 34.55,-53.602 50.899,9.902
3D body "137191.step": height 26.82, standoff -3.01, extent 20.3,-53.602 36.649,9.902
3D body "137191.step": height 26.82, standoff -3.01, extent 6.05,-53.602 22.399,9.902
3D body "137191.step": height 26.82, standoff -3.01, extent -8.2,-53.602 8.149,9.902

## ZSFP-1144PS [mm] "/ 180826 / J.Jaramillo"
pads (34):
  rect 2x2 hole 1.1: SH(-28.5,-25.9) SH(-28.5,-15.9) SH(-28.5,-5.9) SH(-28.5,4.1) SH(-14.25,-30.9) SH(-14.25,-20.9) SH(-14.25,-10.9) SH(0,-5.9) SH(14.25,-25.9) SH(14.25,-15.9) SH(14.25,-5.9) SH(28.5,-30.9) SH(28.5,-20.9) SH(28.5,-10.9)
  round 0.95 hole 0.95 unplated: SH(-28.5,-8.1) SH(-26.17,6.2) SH(-21.37,6.2) SH(-14.25,-8.1) SH(-11.92,6.2) SH(-7.12,6.2) SH(2.32,6.2) SH(7.12,6.2) SH(14.25,-8.1) SH(16.57,6.2) SH(21.37,6.2) SH(28.5,-8.1)
  rect 2x2 hole 1: SH(-14.25,-3.4) SH(-14.25,1.6) SH(0,4.075) SH(14.25,4.075) SH(28.5,-3.4) SH(28.5,1.6)
  rect 2x2 hole 0.95: SH(0,-25.9) SH(0,-15.9)
Top Layer keep-out:
  region: -29.5,-27.01 29.5,-27.01 29.5,-29.798 -29.5,-29.798
  region: -29.5,-22.01 29.5,-22.01 29.5,-24.795 -29.5,-24.795
  region: 1.101,-24.795 13.145,-24.795 13.145,-27.005 1.101,-27.005
  region: -13.25,-9.9 27.5,-9.9 27.5,-11.9 -13.25,-11.9
  region: -29.5,-9.9 -15.25,-9.9 -15.25,-11.9 -29.5,-11.9
  region: 1.113,-14.8 13.147,-14.8 13.147,-16.999 1.113,-16.999
  region: -27.405,-14.807 -1.099,-14.807 -1.099,-16.994 -27.405,-16.994
  region: 27.5,0.6 29.5,0.6 29.5,-2.36 27.5,-2.36
  region: 27.5,6.88 29.5,6.88 29.5,2.6 27.5,2.6
  region: -29.5,6.88 -27.5,6.88 -27.5,5.201 -29.5,5.201
  region: 13.25,5.9 15.25,5.9 15.25,5.17 13.25,5.17
  region: -1,-7 1,-7 1,-8.675 -1,-8.675
  region: -1,3.037 1,3.037 1,-4.9 -1,-4.9
  region: -15.25,0.6 -13.25,0.6 -13.25,-2.3 -15.25,-2.3
  region: -15.25,5.9 -13.25,5.9 -13.25,2.6 -15.25,2.6
  region: 24.63,6.88 27.5,6.88 27.5,5.9 24.63,5.9
  region: 17.14,6.88 18.13,6.88 18.13,5.9 17.14,5.9
  region: -3.87,6.88 1.739,6.88 1.739,5.9 -3.87,5.9
  region: -11.347,6.88 -10.37,6.88 -10.37,5.9 -11.347,5.9
  region: -27.5,6.88 -26.749,6.88 -26.749,5.9 -27.5,5.9
  region: -29.5,-16.996 29.5,-16.996 29.5,-19.801 -29.5,-19.801
  region: -29.5,-11.9 29.5,-11.9 29.5,-14.803 -29.5,-14.803
  region: -29.5,-8.674 29.5,-8.674 29.5,-9.9 -29.5,-9.9
  region: -29.5,-29.792 -15.355,-29.792 -15.355,-32.004 -29.5,-32.004
  region: -27.399,-24.805 -1.098,-24.805 -1.098,-27 -27.399,-27
  region: 15.36,-24.81 29.5,-24.81 29.5,-27 15.36,-27
  region: -13.144,-19.814 27.398,-19.814 27.398,-22.005 -13.144,-22.005
  region: -29.5,-19.814 -15.357,-19.814 -15.357,-22 -29.5,-22
  region: -13.25,-9.9 27.5,-9.9 27.5,-11.9 -13.25,-11.9
  region: -29.5,-9.9 -15.25,-9.9 -15.25,-11.9 -29.5,-11.9
  region: 27.5,-4.486 29.5,-4.486 29.5,-7.507 27.5,-7.507
  region: 27.5,6.88 29.5,6.88 29.5,2.6 27.5,2.6
  region: -29.5,-6.9 -27.5,-6.9 -27.5,-7.524 -29.5,-7.524
  region: -29.5,2.999 -27.5,2.999 -27.5,-4.9 -29.5,-4.9
  region: 13.25,-7.011 15.25,-7.011 15.25,-7.496 13.25,-7.496
  region: 13.25,2.953 15.25,2.953 15.25,-4.9 13.25,-4.9
  region: -15.25,5.9 -13.25,5.9 -13.25,2.6 -15.25,2.6
  region: 24.63,6.88 27.5,6.88 27.5,5.9 24.63,5.9
  region: 10.38,6.88 15.993,6.88 15.993,5.9 10.38,5.9
  region: 2.896,6.88 3.88,6.88 3.88,5.9 2.896,5.9
  region: -18.12,6.88 -12.498,6.88 -12.498,5.9 -18.12,5.9
  region: -25.601,6.88 -24.62,6.88 -24.62,5.9 -25.601,5.9
  region: -29.5,-32.004 29.5,-32.004 29.5,-35.4 -29.5,-35.4
  region: 15.358,-14.81 29.464,-14.81 29.464,-17 15.358,-17
  region: -15.25,-4.496 -13.25,-4.496 -13.25,-7.544 -15.25,-7.544
  region: 27.499,-8.674 27.499,-7.513 27.928,-7.513 27.928,-8.674
  region: 29.069,-8.677 29.069,-7.516 29.498,-7.516 29.498,-8.677
  region: 13.249,-8.674 13.249,-7.513 13.678,-7.513 13.678,-8.674
  region: 14.819,-8.677 14.819,-7.516 15.248,-7.516 15.248,-8.677
  region: -15.251,-8.674 -15.251,-7.513 -14.822,-7.513 -14.822,-8.674
  region: -13.681,-8.677 -13.681,-7.516 -13.252,-7.516 -13.252,-8.677
  region: -29.501,-8.674 -29.501,-7.513 -29.072,-7.513 -29.072,-8.674
  region: -27.931,-8.677 -27.931,-7.516 -27.502,-7.516 -27.502,-8.677
  region: -25.593,6.769 -26.754,6.769 -26.754,6.879 -25.593,6.879
  region: -11.343,6.769 -12.504,6.769 -12.504,6.879 -11.343,6.879
  region: 17.147,6.769 15.986,6.769 15.986,6.879 17.147,6.879
  region: 2.897,6.769 1.736,6.769 1.736,6.879 2.897,6.879
  region: -13.146,-29.808 27.4,-29.808 27.4,-32.004 -13.146,-32.004
  region: -1,5.9 1,5.9 1,5.182 -1,5.182
Top Overlay:
  circle w0.2: c-30.17,-4.4 r0.1
  lines w0.127: -28.625,-27.75 -28.625,-35.4 28.625,-35.4 28.625,-31.635 ; -28.625,-24.05 -28.625,-17.8 ; -28.625,-14.05 -28.625,-7.8 ; -28.625,-4.25 -28.625,6.3 -27.6,6.3 ; -24.8,6.3 -13.3,6.3 ; -10.6,6.3 0.9,6.3 ; 3.7,6.3 15.2,6.3 ; 17.9,6.3 28.625,6.3 28.625,3.5 ; 28.625,-29.121 28.625,-22.35 ; 28.625,-19.45 28.625,-12.35 ; 28.625,-9.15 28.625,-0.2
Mechanical 13:
  circle w0.2: c-30.17,-4.4 r0.1
  lines w0.127: 38.925,-35.4 28.625,-35.4 ; -28.625,-35.4 -28.625,-42.4 28.625,-42.4 28.625,-35.4 ; -28.625,-35.4 -28.625,6.3 28.625,6.3 28.625,-35.4 ; -28.625,-35.4 28.625,-35.4
  text "PCB Edge" at 30.813,-35.127 h0.64
Mechanical 15:
  drawing of 464 lines, arcs and shapes, not listed
3D body "c-2149730-2-a-3d.step": height 12.74, standoff -2.01, extent -29.543,-42.522 29.49,6.653